# EAGLE library part RJ11 (library connectors)
ICD connector Farnell: 1097917
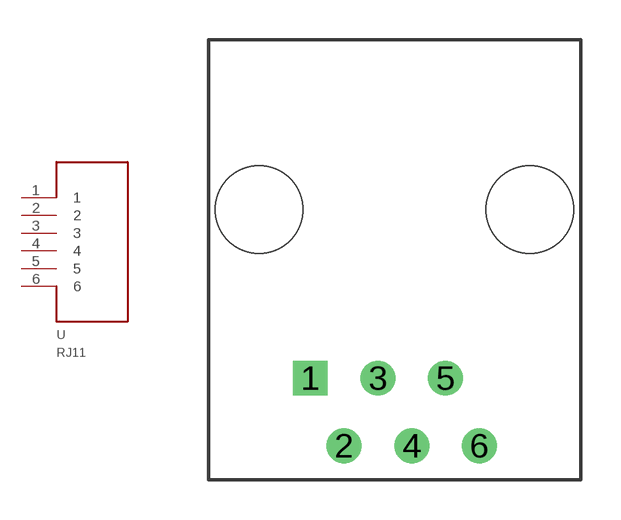
[diagram p4: symbol with the pads of RJ11; footprint RJ11]

Designator prefix -

## RJ11  [RJ11]
1  1
2  2
3  3
4  4
5  5
6  6

## Footprint RJ11 (pad centres in mm)
drill 0.8 square: 1 0,0
drill 0.8 round: 2 1.27,-2.54; 3 2.54,0; 4 3.81,-2.54; 5 5.08,0; 6 6.35,-2.54
hole 3.3 at -1.92,6.33
hole 3.3 at 8.24,6.33